# EAGLE library part ADS1243 (library bleHAT)
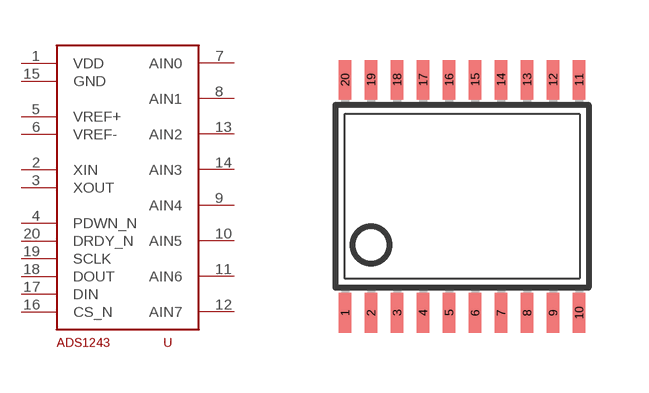
[diagram p1: symbol with the pads of TSSOP20; footprint TSSOP20]

Designator prefix -

## ADS1243  [TSSOP20]
1  VDD
2  XIN
3  XOUT
4  PDWN_N
5  VREF+
6  VREF-
7  AIN0
8  AIN1
9  AIN4
10  AIN5
11  AIN6
12  AIN7
13  AIN2
14  AIN3
15  GND
16  CS_N
17  DIN
18  DOUT
19  SCLK
20  DRDY_N

## Footprint TSSOP20 (pad centres in mm)
Thin Shrink Small Outline Plastic 20 MAX3223-MAX3243.pdf
smd 0.305 x 0.991: 1 -2.925,-2.918; 2 -2.275,-2.918; 3 -1.625,-2.918; 4 -0.975,-2.918; 5 -0.325,-2.918; 6 0.325,-2.918; 7 0.975,-2.918; 8 1.625,-2.918; 9 2.275,-2.918; 10 2.925,-2.918; 11 2.925,2.918; 12 2.275,2.918; 13 1.625,2.918; 14 0.975,2.918; 15 0.325,2.918; 16 -0.325,2.918; 17 -0.975,2.918; 18 -1.625,2.918; 19 -2.275,2.918; 20 -2.925,2.918